# Altium footprint library SchLib_Recinto.PcbLib: 64 footprints (part 4 of 4)
Each footprint in its own frame and in the unit in brackets; x right, y up, seen from the top. Pads: shape width x height; smd on the part's side, far side on the other; paste and mask are expansions set on the pad; w line width, h text height; cw(c..) or ccw(c..) is an arc to the next point about the centre after c.
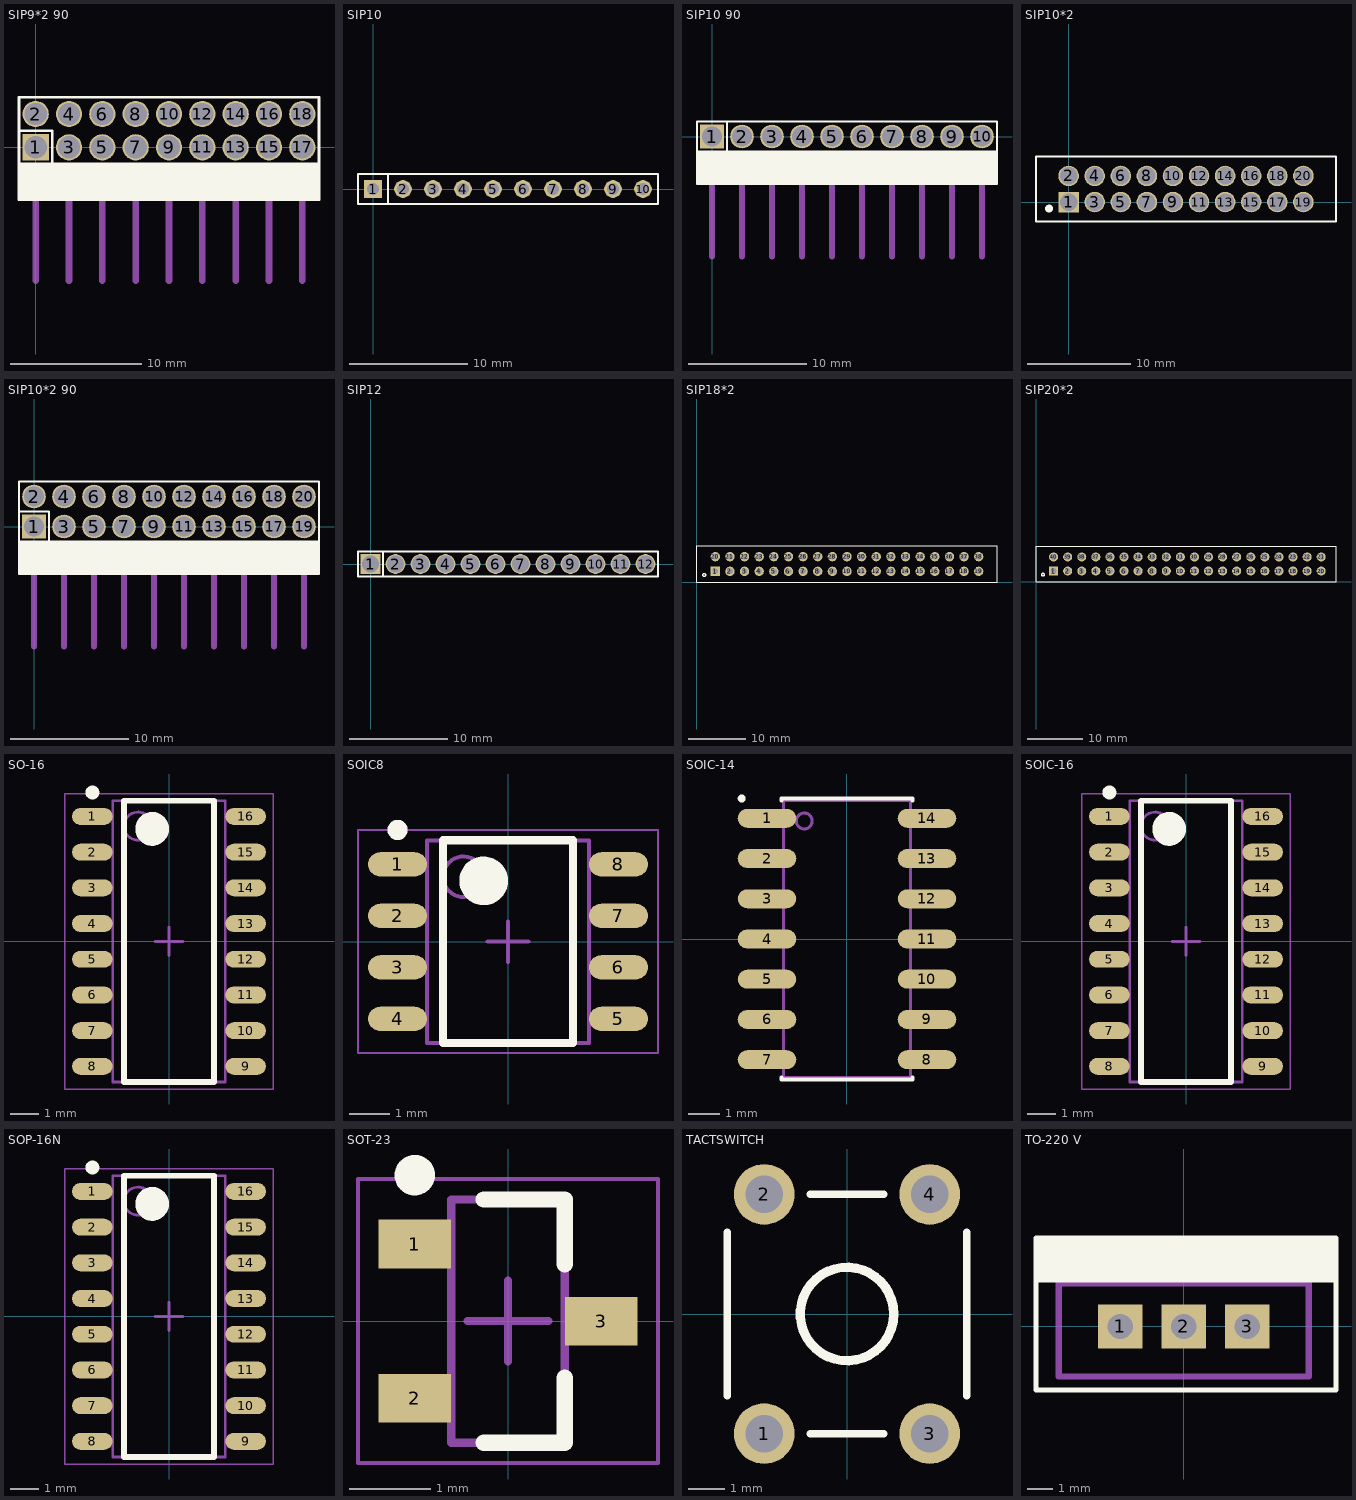
[diagram p3: the footprints below, top view; thin cyan lines are the x and y axes]

## SIP9*2 90 [mm]
pads (18):
  rect 2x2 hole 1.7: 1(0,0)
  round 2 hole 1.7: 2(0,2.54) 3(2.54,0) 4(2.54,2.54) 5(5.08,0) 6(5.08,2.54) 7(7.62,0) 8(7.62,2.54) 9(10.16,0) 10(10.16,2.54) 11(12.7,0) 12(12.7,2.54) 13(15.24,0) 14(15.24,2.54) 15(17.78,0) 16(17.78,2.54) 17(20.32,0) 18(20.32,2.54)
Top Overlay:
  rectangle: -1.27,-4 1.27,-1.27
  rectangle: 1.27,-4 3.81,-1.27
  rectangle: 3.81,-4 6.35,-1.27
  rectangle: 6.35,-4 8.89,-1.27
  rectangle: 8.89,-4 11.43,-1.27
  rectangle: 11.43,-4 13.97,-1.27
  rectangle: 13.97,-4 16.51,-1.27
  rectangle: 16.51,-4 19.05,-1.27
  rectangle: 19.05,-4 21.59,-1.27
  lines w0.2: -1.27,1.27 1.27,1.27 1.27,-1.27 ; -1.27,-1.27 21.59,-1.27 ; -1.27,-1.27 -1.27,3.81 21.59,3.81 21.59,-1.27 ; -1.27,-1.27 -1.27,-4 1.27,-4 ; 1.27,-4 1.27,-1.27 ; 1.27,-4 1.27,-1.27 ; 1.27,-4 3.81,-4 ; 3.81,-4 3.81,-1.27 3.81,-4 ; 3.81,-4 6.35,-4 ; 6.35,-4 6.35,-1.27 6.35,-4 ; 6.35,-4 8.89,-4 ; 8.89,-4 8.89,-1.27 8.89,-4 ; 8.89,-4 11.43,-4 ; 11.43,-4 11.43,-1.27 11.43,-4 ; 11.43,-4 13.97,-4 ; 13.97,-4 13.97,-1.27 13.97,-4 ; 13.97,-4 16.51,-4 ; 16.51,-4 16.51,-1.27 16.51,-4 ; 16.51,-4 19.05,-4 ; 19.05,-4 19.05,-1.27 19.05,-4 ; 19.05,-4 21.59,-4 21.59,-1.27
Mechanical 1:
  lines w0.508: 0,-10.16 0,-4.064 ; 2.54,-10.16 2.54,-4.064 ; 5.08,-10.16 5.08,-4.064 ; 7.62,-10.16 7.62,-4.064 ; 10.16,-10.16 10.16,-4.064 ; 12.7,-10.16 12.7,-4.064 ; 15.24,-10.16 15.24,-4.064 ; 17.78,-10.16 17.78,-4.064 ; 20.32,-10.16 20.32,-4.064
3D body "pin_header_awl254-da-g06d.stp": height 5.1, standoff -2.9, extent 13.97,-9.906 21.59,2.974
3D body "pin_header_awl254-da-g06d.stp": height 5.1, standoff -2.9, extent 6.35,-9.906 13.97,2.974
3D body "pin_header_awl254-da-g06d.stp": height 5.1, standoff -2.9, extent -1.27,-9.906 6.35,2.974

## SIP10 [mm]
pads (10):
  rect 1.5x1.5 hole 1.016: 1(0,0)
  round 1.5 hole 1.016: 2(2.54,0) 3(5.08,0) 4(7.62,0) 5(10.16,0) 6(12.7,0) 7(15.24,0) 8(17.78,0) 9(20.32,0) 10(22.86,0)
Top Overlay:
  lines w0.2: 1.27,-1.27 1.27,1.27 ; -1.27,-1.27 -1.27,1.27 24.13,1.27 24.13,-1.27 -1.27,-1.27
3D body "SIP3.step": height 8.38, standoff -2.54, extent 6.35,-1.295 13.97,1.245
3D body "SIP3.step": height 8.38, standoff -2.54, extent -1.27,-1.295 6.35,1.245
3D body "SIP4.step": height 8.38, standoff -2.54, extent 13.97,-1.27 24.13,1.27

## SIP10 90 [mm]
pads (10):
  rect 2x2 hole 1.7: 1(0,0)
  round 2 hole 1.7: 2(2.54,0) 3(5.08,0) 4(7.62,0) 5(10.16,0) 6(12.7,0) 7(15.24,0) 8(17.78,0) 9(20.32,0) 10(22.86,0)
Top Overlay:
  rectangle: -1.27,-4 1.27,-1.27
  rectangle: 1.27,-4 3.81,-1.27
  rectangle: 3.81,-4 6.35,-1.27
  rectangle: 6.35,-4 8.89,-1.27
  rectangle: 8.89,-4 11.43,-1.27
  rectangle: 11.43,-4 13.97,-1.27
  rectangle: 13.97,-4 16.51,-1.27
  rectangle: 16.51,-4 19.05,-1.27
  rectangle: 19.05,-4 21.59,-1.27
  rectangle: 21.59,-4 24.13,-1.27
  lines w0.2: 1.27,1.27 1.27,-1.27 ; -1.27,-1.27 24.13,-1.27 ; -1.27,-1.27 -1.27,1.27 24.13,1.27 24.13,-1.27 ; -1.27,-1.27 -1.27,-4 1.27,-4 ; 1.27,-4 1.27,-1.27 ; 1.27,-4 1.27,-1.27 ; 1.27,-4 3.81,-4 ; 3.81,-4 3.81,-1.27 3.81,-4 ; 3.81,-4 6.35,-4 ; 6.35,-4 6.35,-1.27 6.35,-4 ; 6.35,-4 8.89,-4 ; 8.89,-4 8.89,-1.27 8.89,-4 ; 8.89,-4 11.43,-4 ; 11.43,-4 11.43,-1.27 11.43,-4 ; 11.43,-4 13.97,-4 ; 13.97,-4 13.97,-1.27 13.97,-4 ; 13.97,-4 16.51,-4 ; 16.51,-4 16.51,-1.27 16.51,-4 ; 16.51,-4 19.05,-4 ; 19.05,-4 19.05,-1.27 19.05,-4 ; 19.05,-4 21.59,-4 ; 21.59,-4 21.59,-1.27 21.59,-4 ; 21.59,-4 24.13,-4 24.13,-1.27
Mechanical 1:
  lines w0.508: 0,-10.16 0,-4.064 ; 2.54,-10.16 2.54,-4.064 ; 5.08,-10.16 5.08,-4.064 ; 7.62,-10.16 7.62,-4.064 ; 10.16,-10.16 10.16,-4.064 ; 12.7,-10.16 12.7,-4.064 ; 15.24,-10.16 15.24,-4.064 ; 17.78,-10.16 17.78,-4.064 ; 20.32,-10.16 20.32,-4.064 ; 22.86,-10.16 22.86,-4.064
3D body "User Library-m0003083.step": height 3.76, standoff -4.72, extent -1.27,-9.938 3.81,0.286
3D body "User Library-m0003083.step": height 3.76, standoff -4.72, extent 3.81,-9.938 8.89,0.286
3D body "User Library-m0003083.step": height 3.76, standoff -4.72, extent 8.89,-9.938 13.97,0.286
3D body "User Library-m0003083.step": height 3.76, standoff -4.72, extent 13.97,-9.938 19.05,0.286
3D body "User Library-m0003083.step": height 3.76, standoff -4.72, extent 19.05,-9.938 24.13,0.286

## SIP10*2 [mm]
pads (20):
  rect 2x2 hole 1.7: 1(0,0)
  round 2 hole 1.7: 2(0,2.54) 3(2.54,0) 4(2.54,2.54) 5(5.08,0) 6(5.08,2.54) 7(7.62,0) 8(7.62,2.54) 9(10.16,0) 10(10.16,2.54) 11(12.7,0) 12(12.7,2.54) 13(15.24,0) 14(15.24,2.54) 15(17.78,0) 16(17.78,2.54) 17(20.32,0) 18(20.32,2.54) 19(22.86,0) 20(22.86,2.54)
Top Overlay:
  circle w0.254: c-1.905,-0.635 r0.254
  circle w0.254: c-1.993,-0.635 r0.125
  lines w0.2: -3.175,-1.905 -3.175,4.445 26.035,4.445 26.035,-1.905 -3.175,-1.905
3D body "SIP3_2.step": height 10.1, standoff -1.5, extent -1.262,-1.295 6.358,3.785
3D body "SIP3_2.step": height 10.1, standoff -1.5, extent 16.518,-1.295 24.138,3.785
3D body "SIP3_2.step": height 10.1, standoff -1.5, extent 3.818,-1.295 11.438,3.785
3D body "SIP3_2.step": height 10.1, standoff -1.5, extent 11.438,-1.295 19.058,3.785

## SIP10*2 90 [mm]
pads (20):
  rect 2x2 hole 1.7: 1(0,0)
  round 2 hole 1.7: 2(0,2.54) 3(2.54,0) 4(2.54,2.54) 5(5.08,0) 6(5.08,2.54) 7(7.62,0) 8(7.62,2.54) 9(10.16,0) 10(10.16,2.54) 11(12.7,0) 12(12.7,2.54) 13(15.24,0) 14(15.24,2.54) 15(17.78,0) 16(17.78,2.54) 17(20.32,0) 18(20.32,2.54) 19(22.86,0) 20(22.86,2.54)
Top Overlay:
  rectangle: -1.27,-4 1.27,-1.27
  rectangle: 1.27,-4 3.81,-1.27
  rectangle: 3.81,-4 6.35,-1.27
  rectangle: 6.35,-4 8.89,-1.27
  rectangle: 8.89,-4 11.43,-1.27
  rectangle: 11.43,-4 13.97,-1.27
  rectangle: 13.97,-4 16.51,-1.27
  rectangle: 16.51,-4 19.05,-1.27
  rectangle: 19.05,-4 21.59,-1.27
  rectangle: 21.59,-4 24.13,-1.27
  lines w0.2: -1.27,1.27 1.27,1.27 1.27,-1.27 ; -1.27,-1.27 24.13,-1.27 ; -1.27,-1.27 -1.27,3.81 24.13,3.81 24.13,-1.27 ; -1.27,-1.27 -1.27,-4 1.27,-4 ; 1.27,-4 1.27,-1.27 ; 1.27,-4 1.27,-1.27 ; 1.27,-4 3.81,-4 ; 3.81,-4 3.81,-1.27 3.81,-4 ; 3.81,-4 6.35,-4 ; 6.35,-4 6.35,-1.27 6.35,-4 ; 6.35,-4 8.89,-4 ; 8.89,-4 8.89,-1.27 8.89,-4 ; 8.89,-4 11.43,-4 ; 11.43,-4 11.43,-1.27 11.43,-4 ; 11.43,-4 13.97,-4 ; 13.97,-4 13.97,-1.27 13.97,-4 ; 13.97,-4 16.51,-4 ; 16.51,-4 16.51,-1.27 16.51,-4 ; 16.51,-4 19.05,-4 ; 19.05,-4 19.05,-1.27 19.05,-4 ; 19.05,-4 21.59,-4 ; 21.59,-4 21.59,-1.27 21.59,-4 ; 21.59,-4 24.13,-4 24.13,-1.27
Mechanical 1:
  lines w0.508: 0,-10.16 0,-4.064 ; 2.54,-10.16 2.54,-4.064 ; 5.08,-10.16 5.08,-4.064 ; 7.62,-10.16 7.62,-4.064 ; 10.16,-10.16 10.16,-4.064 ; 12.7,-10.16 12.7,-4.064 ; 15.24,-10.16 15.24,-4.064 ; 17.78,-10.16 17.78,-4.064 ; 20.32,-10.16 20.32,-4.064 ; 22.86,-10.16 22.86,-4.064
3D body "pin_header_awl254-da-g06d.stp": height 5.1, standoff -2.9, extent 16.51,-10.086 24.13,2.794
3D body "pin_header_awl254-da-g04d.stp": height 5.1, standoff -2.9, extent 11.43,-10.086 16.51,2.794
3D body "pin_header_awl254-da-g06d.stp": height 5.1, standoff -2.9, extent 3.81,-10.086 11.43,2.794
3D body "pin_header_awl254-da-g04d.stp": height 5.1, standoff -2.9, extent -1.27,-10.086 3.81,2.794

## SIP12 [mm]
pads (12):
  rect 2x2 hole 1.7: 1(0,0)
  round 2 hole 1.7: 2(2.54,0) 3(5.08,0) 4(7.62,0) 5(10.16,0) 6(12.7,0) 7(15.24,0) 8(17.78,0) 9(20.32,0) 10(22.86,0) 11(25.4,0) 12(27.94,0)
Top Overlay:
  lines w0.2: 1.27,-1.27 1.27,1.27 ; -1.27,-1.27 -1.27,1.27 29.21,1.27 29.21,0.635 29.21,-0.635 29.21,-1.27 -1.27,-1.27
3D body: height 0.25, standoff 0, extent 24.13,-1.27 29.21,1.27
3D body "SIP3.step": height 8.38, standoff -2.54, extent 6.35,-1.295 13.97,1.245
3D body "SIP3.step": height 8.38, standoff -2.54, extent -1.27,-1.295 6.35,1.245
3D body "SIP4.step": height 8.38, standoff -2.54, extent 13.97,-1.27 24.13,1.27

## SIP18*2 [mil]
pads (38):
  rect 64.02x64.02 hole 40: 1(125,75)
  round 64.02 hole 40: 2(225,75) 3(325,75) 4(425,75) 5(525,75) 6(625,75) 7(725,75) 8(825,75) 9(925,75) 10(1025,75) 11(1125,75) 12(1225,75) 13(1325,75) 14(1425,75) 15(1525,75) 16(1625,75) 17(1725,75) 18(1825,75) 19(1925,75) 20(125,175) 21(225,175) 22(325,175) 23(425,175) 24(525,175) 25(625,175) 26(725,175) 27(825,175) 28(925,175) 29(1025,175) 30(1125,175) 31(1225,175) 32(1325,175) 33(1425,175) 34(1525,175) 35(1625,175) 36(1725,175) 37(1825,175) 38(1925,175)
Top Overlay:
  circle w10: c50,50 r10
  lines w7.87: 0,0 2050,0 2050,250 0,250 0,0
3D body "SIP3_2.step": height 397.64, standoff -59.06, extent 675.31,24 975.31,224
3D body "SIP3_2.step": height 397.64, standoff -59.06, extent 375.31,24 675.31,224
3D body "SIP3_2.step": height 397.64, standoff -59.06, extent 75.31,24 375.31,224
3D body "SIP3_2.step": height 397.64, standoff -59.06, extent 975.31,24 1275.31,224
3D body "SIP3_2.step": height 397.64, standoff -59.06, extent 1275.31,24 1575.31,224
3D body "SIP3_2.step": height 397.64, standoff -59.06, extent 1575.31,24 1875.31,224

## SIP20*2 [mil]
pads (40):
  rect 64.02x64.02 hole 40: 1(125,75)
  round 64.02 hole 40: 2(225,75) 3(325,75) 4(425,75) 5(525,75) 6(625,75) 7(725,75) 8(825,75) 9(925,75) 10(1025,75) 11(1125,75) 12(1225,75) 13(1325,75) 14(1425,75) 15(1525,75) 16(1625,75) 17(1725,75) 18(1825,75) 19(1925,75) 20(2025,75) 21(2025,175) 22(1925,175) 23(1825,175) 24(1725,175) 25(1625,175) 26(1525,175) 27(1425,175) 28(1325,175) 29(1225,175) 30(1125,175) 31(1025,175) 32(925,175) 33(825,175) 34(725,175) 35(625,175) 36(525,175) 37(425,175) 38(325,175) 39(225,175) 40(125,175)
Top Overlay:
  circle w10: c50,50 r10
  lines w7.87: 0,0 2130,0 2130,250 0,250 0,0
3D body "SIP3_2.step": height 397.64, standoff -59.06, extent 675.31,24 975.31,224
3D body "SIP3_2.step": height 397.64, standoff -59.06, extent 375.31,24 675.31,224
3D body "SIP3_2.step": height 397.64, standoff -59.06, extent 75.31,24 375.31,224
3D body "SIP3_2.step": height 397.64, standoff -59.06, extent 975.31,24 1275.31,224
3D body "SIP3_2.step": height 397.64, standoff -59.06, extent 1275.31,24 1575.31,224
3D body "SIP3_2.step": height 397.64, standoff -59.06, extent 1575.31,24 1875.31,224
3D body "SIP3_2.step": height 397.64, standoff -59.06, extent 1775.31,24 2075.31,224

## SO-16 [mm] "SOP, 16-Leads, Body 9,90x3,90mm, Pitch 1,27mm, IPC Medium Density"
height 1.75
pads (16):
  oval 1.45x0.6 smd: 1(-2.725,4.445) 2(-2.725,3.175) 3(-2.725,1.905) 4(-2.725,0.635) 5(-2.725,-0.635) 6(-2.725,-1.905) 7(-2.725,-3.175) 8(-2.725,-4.445) 9(2.725,-4.445) 10(2.725,-3.175) 11(2.725,-1.905) 12(2.725,-0.635) 13(2.725,0.635) 14(2.725,1.905) 15(2.725,3.175) 16(2.725,4.445)
Top Overlay:
  circle w0.6: c-0.6,4 r0.3
  circle w0.25: c-2.725,5.295 r0.125
  lines w0.2: -1.6,-5 1.6,-5 1.6,5 -1.6,5 -1.6,-5
Mechanical 13:
  circle w0.1: c-1.1,4.1 r0.5
  lines w0.1: -2,-5 2,-5 2,5 -2,5 -2,-5
Mechanical 15:
  lines w0.05: -3.7,-5.25 3.7,-5.25 3.7,5.25 -3.7,5.25 -3.7,-5.25
  lines w0.1: -0.5,0 0.5,0 ; 0,-0.5 0,0.5
3D body: height 1.75, standoff 0.1, extent -2,-5 2,5

## SOIC8 [mm] "SOIC, 8-Leads, Body 4,91x3,90mm, Pitch 1,27mm, IPC Medium Density"
height 1.75
pads (8):
  oval 1.45x0.6 smd: 1(-2.725,1.905) 2(-2.725,0.635) 3(-2.725,-0.635) 4(-2.725,-1.905) 5(2.725,-1.905) 6(2.725,-0.635) 7(2.725,0.635) 8(2.725,1.905)
Top Overlay:
  circle w0.6: c-0.6,1.5 r0.3
  circle w0.25: c-2.725,2.755 r0.125
  lines w0.2: -1.6,-2.5 1.6,-2.5 1.6,2.5 -1.6,2.5 -1.6,-2.5
Mechanical 13:
  circle w0.1: c-1.1,1.6 r0.5
  lines w0.1: -2,-2.5 2,-2.5 2,2.5 -2,2.5 -2,-2.5
Mechanical 15:
  lines w0.05: -3.7,-2.75 3.7,-2.75 3.7,2.75 -3.7,2.75 -3.7,-2.75
  lines w0.1: -0.5,0 0.5,0 ; 0,-0.5 0,0.5
3D body: height 1.75, standoff 0.1, extent -2,-2.5 2,2.5

## SOIC-14 [mm] "SOIC, 14-Leads, Body 8.65x3.90mm, Pitch 1.27mm, IPC Medium Density"
height 2.65
pads (14):
  oval 1.85x0.6 smd: 1(-2.525,3.81) 2(-2.525,2.54) 3(-2.525,1.27) 4(-2.525,0) 5(-2.525,-1.27) 6(-2.525,-2.54) 7(-2.525,-3.81) 8(2.525,-3.81) 9(2.525,-2.54) 10(2.525,-1.27) 11(2.525,0) 12(2.525,1.27) 13(2.525,2.54) 14(2.525,3.81)
Top Overlay:
  circle w0.125: c-3.325,4.435 r0.062
  lines w0.127: -2.063,-4.373 -2.063,-4.439 2.064,-4.439 2.064,-4.373 ; -2.063,4.373 -2.063,4.439 2.064,4.439 2.064,4.373
Top Assembly:
  circle w0.1: c-1.35,3.725 r0.25
  lines w0.1: -2,-4.375 2,-4.375 2,4.375 -2,4.375 -2,-4.375
3D body "SOIC127P600X265-14N.step": height 2.65, standoff 0, extent -3,-4.325 3,4.325

## SOIC-16 [mm] "SOIC, 16-Leads, Body 9,90x3,90mm, Pitch 1,27mm, IPC Medium Density"
height 1.75
pads (16):
  oval 1.45x0.6 smd: 1(-2.725,4.445) 2(-2.725,3.175) 3(-2.725,1.905) 4(-2.725,0.635) 5(-2.725,-0.635) 6(-2.725,-1.905) 7(-2.725,-3.175) 8(-2.725,-4.445) 9(2.725,-4.445) 10(2.725,-3.175) 11(2.725,-1.905) 12(2.725,-0.635) 13(2.725,0.635) 14(2.725,1.905) 15(2.725,3.175) 16(2.725,4.445)
Top Overlay:
  circle w0.6: c-0.6,4 r0.3
  circle w0.25: c-2.725,5.295 r0.125
  lines w0.2: -1.6,-5 1.6,-5 1.6,5 -1.6,5 -1.6,-5
Mechanical 13:
  circle w0.1: c-1.1,4.1 r0.5
  lines w0.1: -2,-5 2,-5 2,5 -2,5 -2,-5
Mechanical 15:
  lines w0.05: -3.7,-5.25 3.7,-5.25 3.7,5.25 -3.7,5.25 -3.7,-5.25
  lines w0.1: -0.5,0 0.5,0 ; 0,-0.5 0,0.5
3D body: height 1.75, standoff 0.1, extent -2,-5 2,5

## SOP-16N [mm] "SOP, 16-Leads, Body 9,90x3,90mm, Pitch 1,27mm, IPC Medium Density"
height 1.75
pads (16):
  oval 1.45x0.6 smd: 1(-2.725,4.445) 2(-2.725,3.175) 3(-2.725,1.905) 4(-2.725,0.635) 5(-2.725,-0.635) 6(-2.725,-1.905) 7(-2.725,-3.175) 8(-2.725,-4.445) 9(2.725,-4.445) 10(2.725,-3.175) 11(2.725,-1.905) 12(2.725,-0.635) 13(2.725,0.635) 14(2.725,1.905) 15(2.725,3.175) 16(2.725,4.445)
Top Overlay:
  circle w0.25: c-2.725,5.295 r0.125
  circle w0.6: c-0.6,4 r0.3
  lines w0.2: -1.6,-5 -1.6,5 1.6,5 1.6,-5 -1.6,-5
Mechanical 13:
  circle w0.1: c-1.1,4.1 r0.5
  lines w0.1: -2,-5 -2,5 2,5 2,-5 -2,-5
Mechanical 15:
  lines w0.05: -3.7,-5.25 -3.7,5.25 3.7,5.25 3.7,-5.25 -3.7,-5.25
  lines w0.1: -0.5,0 0.5,0 ; 0,-0.5 0,0.5
3D body: height 1.75, standoff 0.1, extent -2,-5 2,5

## SOT-23 [mm] "SOT23, 3-Leads, Body 2,90x2,30mm, Pitch 0,95mm, IPC Medium Density"
height 1.1
pads (3):
  rect 0.9x0.6 smd: 1(-1.15,0.95) 2(-1.15,-0.95) 3(1.15,0)
Top Overlay:
  circle w0.25: c-1.15,1.8 r0.125
  lines w0.2: -0.3,-1.5 0.7,-1.5 0.7,-0.7 ; -0.3,1.5 0.7,1.5 0.7,0.7
Mechanical 13:
  lines w0.1: -0.7,-1.5 0.7,-1.5 0.7,1.5 -0.7,1.5 -0.7,-1.5
Mechanical 15:
  lines w0.05: -1.85,-1.75 1.85,-1.75 1.85,1.75 -1.85,1.75 -1.85,-1.75
  lines w0.1: -0.5,0 0.5,0 ; 0,-0.5 0,0.5
3D body: height 1.1, standoff 0.05, extent -0.7,-1.5 0.7,1.5

## TACTSWITCH [mil]
pads (4):
  round 65 hole 40: 1(-88.58,-127.95) 2(-88.58,127.95) 3(88.58,-127.95) 4(88.58,127.95)
Top Overlay:
  circle w10: c0,0 r50
  lines w7.87: -128.11,-87.48 -128.11,87.52 ; -39.37,-128.11 39.37,-128.11 ; -39.37,128.11 39.37,128.11 ; 128.11,-87.52 128.11,87.48
3D body "TACTSWITCH.step": height 275.59, standoff -137.8, extent -120,-155.51 124.09,155.51

## TO-220 V [mil]
pads (3):
  rect 70x70 hole 40: 1(-100,0) 2(0,0) 3(100,0)
Top Overlay:
  region: -232.44,139.37 -232.44,70 240,70 240,139.37
  lines w7.87: -232.44,-100 240,-100 240,139.37 -232.44,139.37 -232.44,-100
Mechanical 1:
  lines w10: -196.85,68.11 196.85,68.11 ; -196.85,-78.74 196.85,-78.74 196.85,118.11 -196.85,118.11 -196.85,-78.74
3D body: height 118.11, standoff 0, extent -125,-15.75 -75,15.75
3D body: height 78.74, standoff -78.74, extent -115.75,-15.75 -84.25,15.75
3D body: height 118.11, standoff 0, extent -25,-15.75 25,15.75
3D body: height 78.74, standoff -78.74, extent -15.75,-15.75 15.75,15.75
3D body: height 118.11, standoff 0, extent 75,-15.75 125,15.75
3D body: height 78.74, standoff -78.74, extent 84.25,-15.75 115.75,15.75
3D body: height 433.07, standoff 118.11, extent -196.85,-78.74 196.85,118.11
3D body: height 708.66, standoff 433.07, extent -196.85,68.11 196.85,118.11